# Altium schematic symbol library 1818025.SchLib: 1 symbol
Pins are listed as number, name and electrical type; pins without a type are passive.

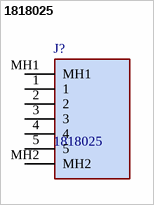
[diagram p0: symbol 1818025]

## 1818025
designator J?
MCV 1,5/ 5-GF-3,5-LR - PCB headers, nominal cross section: 1.5 mm<sup>2</sup>, color: green, nominal current: 8 A, rated voltage (III/2): 160 V, contact surface: Sn, contact connection type: Pin, number of potentials: 5, number of rows: 1, number of positions: 5, number of connections: 5, product range: MCV 1,5/..-GF-LR, pitch: 3.5 mm, mounting: Wave soldering, pin layout: Linear pinning, solder pin [P]: 3.4 mm, number of solder pins per potential: 1, plug-in system: COMBICON MC 1,5, Pin connector pattern a; Manufacturer_Name: Phoenix Contact; Geometry.Height: 9.35mm; Manufacturer_Part_Number: 1818025; Mouser Part Number: 651-1818025; Mouser Price/Stock: https://www.mouser.co.uk/ProductDetail/Phoenix-Contact/1818025?qs=2WS7V4AoKFoZk6SygIuG4Q%3D%3D; Arrow Part Number: 1818025; Arrow Price/Stock: https://www.arrow.com/en/products/1818025/phoenix-contact?region=nac; Datasheet Link: https://www.phoenixcontact.com/en-us/products/pcb-header-mcv-15-5-gf-35-lr-1818025?type=pdf
footprint 1818025
pins: 1, 2, 3, 4, 5, MH1, MH2